# EAGLE library part PCM1754 (library ICs)
24-Bit 192-kHz Sampling Enhanced Multi-Level Delta-Sigma Audio Digital-toAnalogue Converter
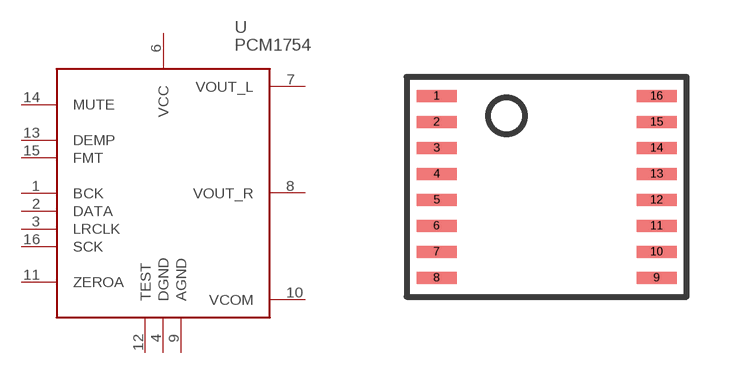
[diagram p138: symbol with the pads of SSOP16-4MM; footprint SSOP16-4MM]

Designator prefix U

## PCM1754 (DIGIKEY: 296-16652-5-ND; HEIGHT: 1.5; PRICE_PER: 2.03; VALUE: PCM1754)  [SSOP16-4MM]
1  BCK
2  DATA
3  LRCLK
4  DGND
6  VCC
7  VOUT_L
8  VOUT_R
9  AGND
10  VCOM
11  ZEROA
12  TEST
13  DEMP
14  MUTE
15  FMT
16  SCK

## Footprint SSOP16-4MM (pad centres in mm)
smd 1 x 0.3: 1 -2.75,2.275; 2 -2.75,1.625; 3 -2.75,0.975; 4 -2.75,0.325; 5 -2.75,-0.325; 6 -2.75,-0.975; 7 -2.75,-1.625; 8 -2.75,-2.275; 9 2.75,-2.275; 10 2.75,-1.625; 11 2.75,-0.975; 12 2.75,-0.325; 13 2.75,0.325; 14 2.75,0.975; 15 2.75,1.625; 16 2.75,2.275